# EAGLE library part LTC2053 (library linear-technology)
DK: LTC2053CMS8#PBF-ND
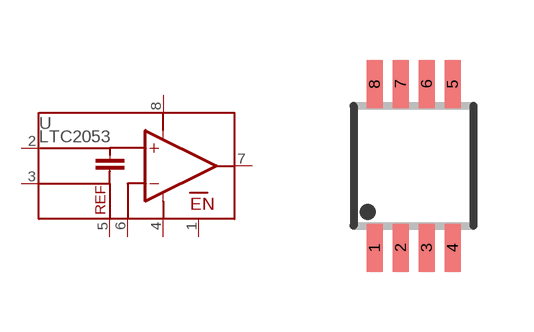
[diagram p34: symbol with the pads of MSOP8; footprint MSOP8]

Designator prefix -

## LTC2053  [MSOP8]
1  EN  in
2  -IN  in
3  +IN  in
4  V-  pwr
5  REF
6  RG
7  OUT  out
8  V+  pwr

## Footprint MSOP8 (pad centres in mm)
MSOP8
smd 0.4 x 1.2: 1 -0.975,-2.05; 2 -0.325,-2.05; 3 0.325,-2.05; 4 0.975,-2.05; 5 0.975,2.05; 6 0.325,2.05; 7 -0.325,2.05; 8 -0.975,2.05